# Altium integrated library TI Power Management Lighting and Display.IntLib: 745 symbols (part 19 of 48)
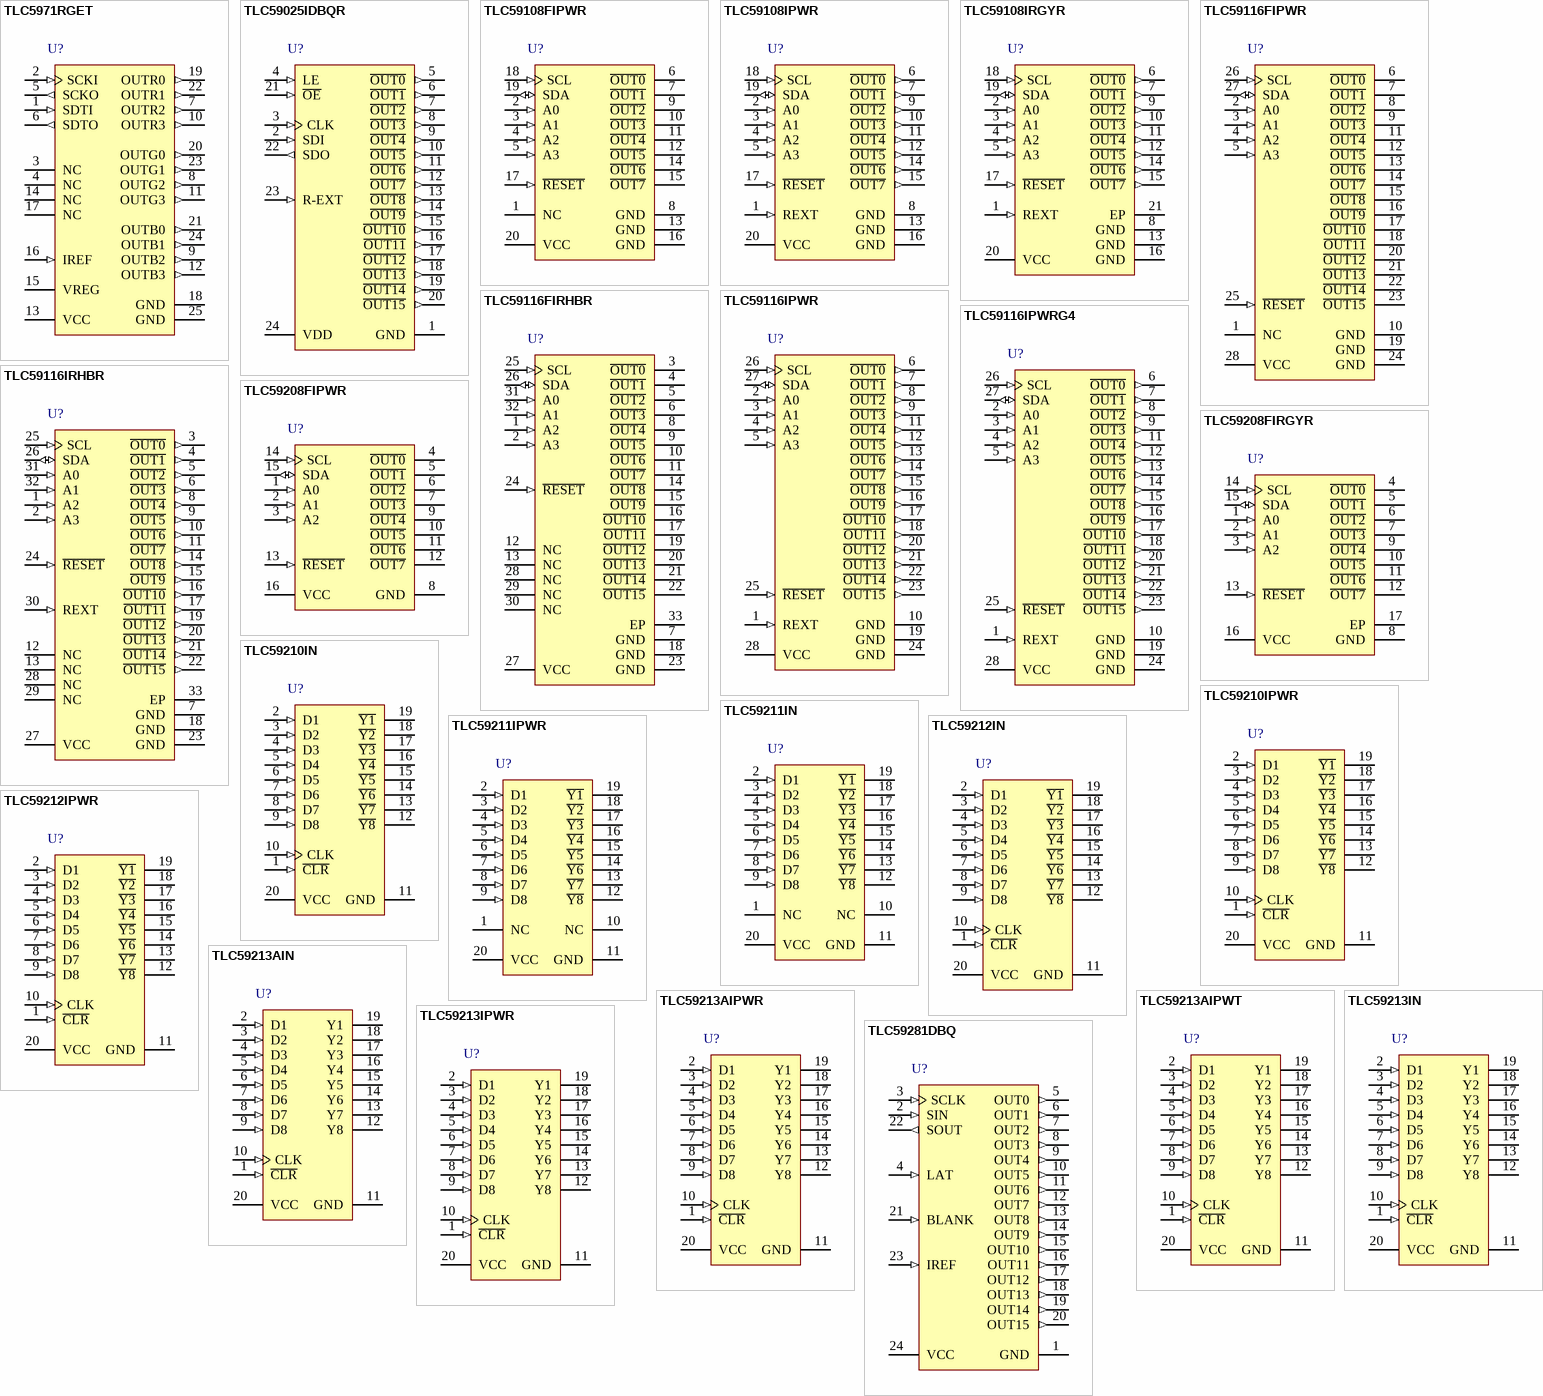
[diagram p49: symbols TLC5971RGET to TLC59281DBQ]

## TLC59108IRGYR
designator U?
8-Bit Fast Mode Plus (FM+) I2C Bus Constant-Current LED Sink Driver, 3 to 5.5 V, -40 to 85 degC, 20-pin QFN (RGY20), Green (RoHS & no Sb/Br); Manufacturer: Texas Instruments; PartNumber: TLC59108IRGYR; Iout(Max)(A): 0.12; SubFamily: LED Driver; Vin(Max)(V): 5.5; Vin(Min)(V): 3; DatasheetVersion: SLDS156A; PackageVersion: 4203539-4/I; PackageReference: RGY20-3050X2050TP; PackageDescription: 20-Pin Plastic Flat Pack, Body 4.5 x 3.5 mm, Pitch 0.5 mm; Supplier 1: Digi-Key; Supplier Part Number 1: TLC59108IRGYR-ND; Supplier 2: Newark; Supplier Part Number 2: 72R6569; Supplier 3: Mouser; Supplier Part Number 3: 595-TLC59108IRGYR; Eco-Plan: Green (RoHS & no Sb/Br); Mounting Technology: Surface Mount; Code_JEDEC: MO-241; ComponentLink1Description: Manufacturer URL; ComponentLink1URL: http://www.ti.com/; ComponentLink2Description: Datasheet; ComponentLink2URL: http://www.ti.com/general/docs/lit/getliterature.tsp?genericPartNumber=TLC59108&fileType=pdf; ComponentLink3Description: Package Specification; ComponentLink3URL: http://www.ti.com/litv/pdf/mpss024a
footprint TI-RGY20-3050X2050TP_V (QFN, 20-Leads, Body 4.5x3.5mm, Pitch 0.5mm, Thermal Pad 3.05x2.05mm)
pins: 1 REXT (in) "Input terminal used to connect an external resistor for setting up all output currents", 2 A0 (in) "Address input 0", 3 A1 (in) "Address input 1", 4 A2 (in) "Address input 2", 5 A3 (in) "Address input 3", 6 ~{OUT0} (out) "Constant current output 0, LED ON at low", 7 ~{OUT1} (out) "Constant current output 1, LED ON at low", 8 GND (power) "Ground", 9 ~{OUT2} (out) "Constant current output 2, LED ON at low", 10 ~{OUT3} (out) "Constant current output 3, LED ON at low", 11 ~{OUT4} (out) "Constant current output 4, LED ON at low", 12 ~{OUT5} (out) "Constant current output 5, LED ON at low", 13 GND (power) "Ground", 14 ~{OUT6} (out) "Constant current output 6, LED ON at low", 15 ~{OUT7} (out) "Constant current output 7, LED ON at low", 16 GND (power) "Ground", 17 ~{RESET} (in) "Active-low reset input", 18 SCL (in) "Serial clock input", 19 SDA (io) "Serial data input/output", 20 VCC (power) "Power supply", 21 EP "Exposed thermal pad"

## TLC59116FIPWR
designator U?
16-Bit Fast-Mode Plus (FM+) I2C-Bus LED Driver, 3 to 5.5 V, -40 to 85 degC, 28-pin SOP (PW28), Green (RoHS & no Sb/Br); Manufacturer: Texas Instruments; PartNumber: TLC59116FIPWR; Rating: Catalog; Vin(Max)(V): 5.5; Vin(Min)(V): 3; DatasheetVersion: SCLS714B; PackageVersion: 4040064-7/G; PackageReference: PW28; PackageDescription: 28-Pin Plastic Small Outline, Body 9.7 x 4.4 mm, Pitch 0.65 mm; Supplier 1: Digi-Key; Supplier Part Number 1: TLC59116FIPWR-ND; Supplier 2: Newark; Supplier Part Number 2: 72R6570; Supplier 3: Mouser; Supplier Part Number 3: 595-TLC59116FIPWR; Eco-Plan: Green (RoHS & no Sb/Br); SubFamily: LED Driver; Mounting Technology: Surface Mount; Code_JEDEC: MO-153; ComponentLink1Description: Manufacturer URL; ComponentLink1URL: http://www.ti.com/; ComponentLink2Description: Datasheet; ComponentLink2URL: http://www.ti.com/general/docs/lit/getliterature.tsp?genericPartNumber=TLC59116F&fileType=pdf; ComponentLink3Description: Package Specification; ComponentLink3URL: http://www.ti.com/litv/pdf/mpds364
footprint TI-PW28_N (SOP, 28-Leads, Body 9.7x4.4mm, Pitch 0.65mm, IPC Medium Density)
footprint TI-PW28_L (SOP, 28-Leads, Body 9.7x4.4mm, Pitch 0.65mm, IPC High Density)
footprint TI-PW28_M (SOP, 28-Leads, Body 9.7x4.4mm, Pitch 0.65mm, IPC Low Density)
pins: 1 NC "No internal connection", 2 A0 (in) "Address input 0", 3 A1 (in) "Address input 1", 4 A2 (in) "Address input 2", 5 A3 (in) "Address input 3", 6 ~{OUT0} (oc) "Open-drain output 0 to 3, LED ON at low", 7 ~{OUT1} (oc) "Open-drain output 0 to 3, LED ON at low", 8 ~{OUT2} (oc) "Open-drain output 0 to 3, LED ON at low", 9 ~{OUT3} (oc) "Open-drain output 0 to 3, LED ON at low", 10 GND (power) "Power ground", 11 ~{OUT4} (oc) "Open-drain output 4 to 7, LED ON at low", 12 ~{OUT5} (oc) "Open-drain output 4 to 7, LED ON at low", 13 ~{OUT6} (oc) "Open-drain output 4 to 7, LED ON at low", 14 ~{OUT7} (oc) "Open-drain output 4 to 7, LED ON at low", 15 ~{OUT8} (oc) "Open-drain output 8 to 11, LED ON at low", 16 ~{OUT9} (oc) "Open-drain output 8 to 11, LED ON at low", 17 ~{OUT10} (oc) "Open-drain output 8 to 11, LED ON at low", 18 ~{OUT11} (oc) "Open-drain output 8 to 11, LED ON at low", 19 GND (power) "Power ground", 20 ~{OUT12} (oc) "Open-drain output 12 to 15, LED ON at low", 21 ~{OUT13} (oc) "Open-drain output 12 to 15, LED ON at low", 22 ~{OUT14} (oc) "Open-drain output 12 to 15, LED ON at low", 23 ~{OUT15} (oc) "Open-drain output 12 to 15, LED ON at low", 24 GND (power) "Power ground", 25 ~{RESET} (in) "Active-low reset input", 26 SCL (in) "Serial clock input", 27 SDA (io) "Serial data input/output", 28 VCC (power) "Power supply"

## TLC59116FIRHBR
designator U?
16-Bit Fast-Mode Plus (FM+) I2C-Bus LED Driver, 3 to 5.5 V, -40 to 85 degC, 32-pin QFN (RHB32), Green (RoHS & no Sb/Br); Manufacturer: Texas Instruments; PartNumber: TLC59116FIRHBR; Rating: Catalog; Vin(Max)(V): 5.5; Vin(Min)(V): 3; DatasheetVersion: SCLS714B; PackageVersion: 4204326/D; PackageReference: RHB32-3450X3450TP; PackageDescription: 32-Pin Plastic Flat Pack, Body 5 x 5 mm, Pitch 0.5 mm; Supplier 1: Digi-Key; Supplier Part Number 1: 296-27584-2-ND; Supplier 2: Digi-Key; Supplier Part Number 2: 296-27584-1-ND; Supplier 3: Digi-Key; Supplier Part Number 3: 296-27584-6-ND; Supplier 4: Newark; Supplier Part Number 4: 79R8508; Supplier 5: Mouser; Supplier Part Number 5: 595-TLC59116FIRHBR; Eco-Plan: Green (RoHS & no Sb/Br); SubFamily: LED Driver; Mounting Technology: Surface Mount; Code_JEDEC: MO-220; ComponentLink1Description: Manufacturer URL; ComponentLink1URL: http://www.ti.com/; ComponentLink2Description: Datasheet; ComponentLink2URL: http://www.ti.com/general/docs/lit/getliterature.tsp?genericPartNumber=TLC59116F&fileType=pdf; ComponentLink3Description: Package Specification; ComponentLink3URL: http://www.ti.com/lit/ml/mpqf130c/mpqf130c.pdf
footprint TI-RHB32-3450X3450TP_V (QFN, 32-Leads, Body 5x5mm, Pitch 0.5mm, Thermal Pad 3.45x3.45mm)
pins: 1 A2 (in) "Address input 2", 2 A3 (in) "Address input 3", 3 ~{OUT0} (oc) "Open-drain output 0, LED ON at low", 4 ~{OUT1} (oc) "Open-drain output 1, LED ON at low", 5 ~{OUT2} (oc) "Open-drain output 2, LED ON at low", 6 ~{OUT3} (oc) "Open-drain output 3, LED ON at low", 7 GND (power) "Power ground", 8 ~{OUT4} (oc) "Open-drain output 4, LED ON at low", 9 ~{OUT5} (oc) "Open-drain output 5, LED ON at low", 10 ~{OUT6} (oc) "Open-drain output 6, LED ON at low", 11 ~{OUT7} (oc) "Open-drain output 7, LED ON at low", 12 NC "No internal connection", 13 NC "No internal connection", 14 ~{OUT8} (oc) "Open-drain output 8, LED ON at low", 15 ~{OUT9} (oc) "Open-drain output 9, LED ON at low", 16 ~{OUT10} (oc) "Open-drain output 10, LED ON at low", 17 ~{OUT11} (oc) "Open-drain output 11, LED ON at low", 18 GND (power) "Power ground", 19 ~{OUT12} (oc) "Open-drain output 12, LED ON at low", 20 ~{OUT13} (oc) "Open-drain output 13, LED ON at low", 21 ~{OUT14} (oc) "Open-drain output 14, LED ON at low", 22 ~{OUT15} (oc) "Open-drain output 15, LED ON at low", 23 GND (power) "Power ground", 24 ~{RESET} (in) "Active-low reset input", 25 SCL (in) "Serial clock input", 26 SDA (io) "Serial data input/output", 27 VCC (power) "Power supply", 28 NC "No internal connection", 29 NC "No internal connection", 30 NC "No internal connection", 31 A0 (in) "Address input 0", 32 A1 (in) "Address input 1", 33 EP (power) "If used, the exposed thermal pad must be connected as a secondary ground."

## TLC59116IPWR
designator U?
16-Bit Fast-Mode Plus (FM+) I2C Bus Constant-Current LED Sink Driver, 3 to 5.5 V, -40 to 85 degC, 28-pin SOP (PW28), Green (RoHS & no Sb/Br); Manufacturer: Texas Instruments; PartNumber: TLC59116IPWR; Rating: Catalog; SubFamily: LED Driver; Vin(Max)(V): 5.5; Vin(Min)(V): 3; DatasheetVersion: SLDS157D; PackageVersion: 4040064-7/G; PackageReference: PW28; PackageDescription: 28-Pin Plastic Small Outline, Body 9.7 x 4.4 mm, Pitch 0.65 mm; Supplier 1: Digi-Key; Supplier Part Number 1: 296-23354-2-ND; Supplier 2: Digi-Key; Supplier Part Number 2: 296-23354-1-ND; Supplier 3: Digi-Key; Supplier Part Number 3: 296-23354-6-ND; Supplier 4: Farnell; Supplier Part Number 4: 1647815RL; Supplier 5: Farnell; Supplier Part Number 5: 1647815; Supplier 6: Newark; Supplier Part Number 6: 85M0144; Supplier 7: Mouser; Supplier Part Number 7: 595-TLC59116IPWR; Eco-Plan: Green (RoHS & no Sb/Br); Mounting Technology: Surface Mount; Code_JEDEC: MO-153; ComponentLink1Description: Manufacturer URL; ComponentLink1URL: http://www.ti.com/; ComponentLink2Description: Datasheet; ComponentLink2URL: http://www.ti.com/general/docs/lit/getliterature.tsp?genericPartNumber=TLC59116&fileType=pdf; ComponentLink3Description: Package Specification; ComponentLink3URL: http://www.ti.com/litv/pdf/mpds364
footprint TI-PW28_N (SOP, 28-Leads, Body 9.7x4.4mm, Pitch 0.65mm, IPC Medium Density)
footprint TI-PW28_L (SOP, 28-Leads, Body 9.7x4.4mm, Pitch 0.65mm, IPC High Density)
footprint TI-PW28_M (SOP, 28-Leads, Body 9.7x4.4mm, Pitch 0.65mm, IPC Low Density)
pins: 1 REXT (in) "Input terminal used to connect an external resistor for setting up all output currents", 2 A0 (in) "Address input 0", 3 A1 (in) "Address input 1", 4 A2 (in) "Address input 2", 5 A3 (in) "Address input 3", 6 ~{OUT0} (out) "Constant current output 0", 7 ~{OUT1} (out) "Constant current output 1", 8 ~{OUT2} (out) "Constant current output 2", 9 ~{OUT3} (out) "Constant current output 3", 10 GND (power) "Ground", 11 ~{OUT4} (out) "Constant current output 4", 12 ~{OUT5} (out) "Constant current output 5", 13 ~{OUT6} (out) "Constant current output 6", 14 ~{OUT7} (out) "Constant current output 7", 15 ~{OUT8} (out) "Constant current output 8", 16 ~{OUT9} (out) "Constant current output 9", 17 ~{OUT10} (out) "Constant current output 10", 18 ~{OUT11} (out) "Constant current output 11", 19 GND (power) "Ground", 20 ~{OUT12} (out) "Constant current output 12", 21 ~{OUT13} (out) "Constant current output 13", 22 ~{OUT14} (out) "Constant current output 14", 23 ~{OUT15} (out) "Constant current output 15", 24 GND (power) "Ground", 25 ~{RESET} (in) "Active-low reset input", 26 SCL (in) "Serial clock input", 27 SDA (io) "Serial data input/output", 28 VCC (power) "Power supply"

## TLC59116IPWRG4
designator U?
16-Bit Fast-Mode Plus (FM+) I2C Bus Constant-Current LED Sink Driver, 3 to 5.5 V, -40 to 85 degC, 28-pin SOP (PW28), Green (RoHS & no Sb/Br); Manufacturer: Texas Instruments; PartNumber: TLC59116IPWRG4; Rating: Catalog; SubFamily: LED Driver; Vin(Max)(V): 5.5; Vin(Min)(V): 3; DatasheetVersion: SLDS157D; PackageVersion: 4040064-7/G; PackageReference: PW28; PackageDescription: 28-Pin Plastic Small Outline, Body 9.7 x 4.4 mm, Pitch 0.65 mm; Supplier 1: Digi-Key; Supplier Part Number 1: TLC59116IPWRG4-ND; Supplier 2: Mouser; Supplier Part Number 2: 595-TLC59116IPWRG4; Eco-Plan: Green (RoHS & no Sb/Br); Mounting Technology: Surface Mount; Code_JEDEC: MO-153; ComponentLink1Description: Manufacturer URL; ComponentLink1URL: http://www.ti.com/; ComponentLink2Description: Datasheet; ComponentLink2URL: http://www.ti.com/general/docs/lit/getliterature.tsp?genericPartNumber=TLC59116&fileType=pdf; ComponentLink3Description: Package Specification; ComponentLink3URL: http://www.ti.com/litv/pdf/mpds364
footprint TI-PW28_N (SOP, 28-Leads, Body 9.7x4.4mm, Pitch 0.65mm, IPC Medium Density)
footprint TI-PW28_L (SOP, 28-Leads, Body 9.7x4.4mm, Pitch 0.65mm, IPC High Density)
footprint TI-PW28_M (SOP, 28-Leads, Body 9.7x4.4mm, Pitch 0.65mm, IPC Low Density)
pins: 1 REXT (in) "Input terminal used to connect an external resistor for setting up all output currents", 2 A0 (in) "Address input 0", 3 A1 (in) "Address input 1", 4 A2 (in) "Address input 2", 5 A3 (in) "Address input 3", 6 ~{OUT0} (out) "Constant current output 0", 7 ~{OUT1} (out) "Constant current output 1", 8 ~{OUT2} (out) "Constant current output 2", 9 ~{OUT3} (out) "Constant current output 3", 10 GND (power) "Ground", 11 ~{OUT4} (out) "Constant current output 4", 12 ~{OUT5} (out) "Constant current output 5", 13 ~{OUT6} (out) "Constant current output 6", 14 ~{OUT7} (out) "Constant current output 7", 15 ~{OUT8} (out) "Constant current output 8", 16 ~{OUT9} (out) "Constant current output 9", 17 ~{OUT10} (out) "Constant current output 10", 18 ~{OUT11} (out) "Constant current output 11", 19 GND (power) "Ground", 20 ~{OUT12} (out) "Constant current output 12", 21 ~{OUT13} (out) "Constant current output 13", 22 ~{OUT14} (out) "Constant current output 14", 23 ~{OUT15} (out) "Constant current output 15", 24 GND (power) "Ground", 25 ~{RESET} (in) "Active-low reset input", 26 SCL (in) "Serial clock input", 27 SDA (io) "Serial data input/output", 28 VCC (power) "Power supply"

## TLC59116IRHBR
designator U?
16-Bit Fast-Mode Plus (FM+) I2C Bus Constant-Current LED Sink Driver, 3 to 5.5 V, -40 to 85 degC, 32-pin QFN (RHB32), Green (RoHS & no Sb/Br); Manufacturer: Texas Instruments; PartNumber: TLC59116IRHBR; Rating: Catalog; SubFamily: LED Driver; Vin(Max)(V): 5.5; Vin(Min)(V): 3; DatasheetVersion: SLDS157D; PackageVersion: 4204326/D; PackageReference: RHB32-3450X3450TP; PackageDescription: 32-Pin Plastic Flat Pack, Body 5 x 5 mm, Pitch 0.5 mm; Supplier 1: Digi-Key; Supplier Part Number 1: TLC59116IRHBRTR-ND; Supplier 2: Digi-Key; Supplier Part Number 2: TLC59116IRHBRCT-ND; Supplier 3: Newark; Supplier Part Number 3: 72R6571; Supplier 4: Mouser; Supplier Part Number 4: 595-TLC59116IRHBR; Eco-Plan: Green (RoHS & no Sb/Br); Mounting Technology: Surface Mount; Code_JEDEC: MO-220; ComponentLink1Description: Manufacturer URL; ComponentLink1URL: http://www.ti.com/; ComponentLink2Description: Datasheet; ComponentLink2URL: http://www.ti.com/general/docs/lit/getliterature.tsp?genericPartNumber=TLC59116&fileType=pdf; ComponentLink3Description: Package Specification; ComponentLink3URL: http://www.ti.com/lit/ml/mpqf130c/mpqf130c.pdf
footprint TI-RHB32-3450X3450TP_V (QFN, 32-Leads, Body 5x5mm, Pitch 0.5mm, Thermal Pad 3.45x3.45mm)
pins: 1 A2 (in) "Address input 2", 2 A3 (in) "Address input 3", 3 ~{OUT0} (out) "Constant current output 0", 4 ~{OUT1} (out) "Constant current output 1", 5 ~{OUT2} (out) "Constant current output 2", 6 ~{OUT3} (out) "Constant current output 3", 7 GND (power) "Ground", 8 ~{OUT4} (out) "Constant current output 4", 9 ~{OUT5} (out) "Constant current output 5", 10 ~{OUT6} (out) "Constant current output 6", 11 ~{OUT7} (out) "Constant current output 7", 12 NC "No internal connection", 13 NC "No internal connection", 14 ~{OUT8} (out) "Constant current output 8", 15 ~{OUT9} (out) "Constant current output 9", 16 ~{OUT10} (out) "Constant current output 10", 17 ~{OUT11} (out) "Constant current output 11", 18 GND (power) "Ground", 19 ~{OUT12} (out) "Constant current output 12", 20 ~{OUT13} (out) "Constant current output 13", 21 ~{OUT14} (out) "Constant current output 14", 22 ~{OUT15} (out) "Constant current output 15", 23 GND (power) "Ground", 24 ~{RESET} (in) "Active-low reset input", 25 SCL (in) "Serial clock input", 26 SDA (io) "Serial data input/output", 27 VCC (power) "Power supply", 28 NC "No internal connection", 29 NC "No internal connection", 30 REXT (in) "Input terminal used to connect an external resistor for setting up all output currents", 31 A0 (in) "Address input 0", 32 A1 (in) "Address input 1", 33 EP (power) "If used, the exposed thermal pad must be connected as a secondary ground."

## TLC59208FIPWR
designator U?
8-Bit Fast-Mode Plus (FM+) I2C Bus LED Driver, 3 to 5.5 V, -40 to 85 degC, 16-pin SOP (PW16), Green (RoHS & no Sb/Br); Manufacturer: Texas Instruments; PartNumber: TLC59208FIPWR; Iout(Max)(A): 0.05; Vin(Max)(V): 5.5; Vin(Min)(V): 3; DatasheetVersion: SCLS715; PackageVersion: 4040064-4/G; PackageReference: PW16; PackageDescription: 16-Pin Plastic Small Outline, Body 4.40 x 5.00 mm, Pitch 0.65 mm; Supplier 1: Digi-Key; Supplier Part Number 1: TLC59208FIPWR-ND; Supplier 2: Newark; Supplier Part Number 2: 72R6572; Supplier 3: Mouser; Supplier Part Number 3: 595-TLC59208FIPWR; Eco-Plan: Green (RoHS & no Sb/Br); SubFamily: LED Driver; Mounting Technology: Surface Mount; Code_JEDEC: MO-153; ComponentLink1Description: Manufacturer URL; ComponentLink1URL: http://www.ti.com/; ComponentLink2Description: Datasheet; ComponentLink2URL: http://www.ti.com/general/docs/lit/getliterature.tsp?genericPartNumber=TLC59208F&fileType=pdf; ComponentLink3Description: Package Specification; ComponentLink3URL: http://www.ti.com/lit/ml/mpds361/mpds361.pdf
footprint TI-PW16_N (SOP, 16-Leads, Body 5x4.4mm, Pitch 0.65mm, IPC Medium Density)
footprint TI-PW16_L (SOP, 16-Leads, Body 5x4.4mm, Pitch 0.65mm, IPC High Density)
footprint TI-PW16_M (SOP, 16-Leads, Body 5x4.4mm, Pitch 0.65mm, IPC Low Density)
pins: 1 A0 (in) "Address input 0", 2 A1 (in) "Address input 1", 3 A2 (in) "Address input 2", 4 ~{OUT0} (oc) "Open-drain output 0 to 7, LED ON at low", 5 ~{OUT1} (oc) "Open-drain output 0 to 7, LED ON at low", 6 ~{OUT2} (oc) "Open-drain output 0 to 7, LED ON at low", 7 ~{OUT3} (oc) "Open-drain output 0 to 7, LED ON at low", 8 GND (power) "Ground", 9 ~{OUT4} (oc) "Open-drain output 0 to 7, LED ON at low", 10 ~{OUT5} (oc) "Open-drain output 0 to 7, LED ON at low", 11 ~{OUT6} (oc) "Open-drain output 0 to 7, LED ON at low", 12 ~{OUT7} (oc) "Open-drain output 0 to 7, LED ON at low", 13 ~{RESET} (in) "Active-low reset input", 14 SCL (in) "Serial clock input", 15 SDA (io) "Serial data input/output", 16 VCC (power) "Power supply"

## TLC59208FIRGYR
designator U?
8-Bit Fast-Mode Plus (FM+) I2C Bus LED Driver, 3 to 5.5 V, -40 to 85 degC, 16-pin QFN (RGY16), Green (RoHS & no Sb/Br); Manufacturer: Texas Instruments; PartNumber: TLC59208FIRGYR; Iout(Max)(A): 0.05; Vin(Max)(V): 5.5; Vin(Min)(V): 3; DatasheetVersion: SCLS715; PackageVersion: 4203539-3/I; PackageReference: RGY16-2550X2050TP; PackageDescription: 16-Pin Plastic Flat pack, Body 4.00 x 3.50 mm, Pitch 0.50 mm; Supplier 1: Digi-Key; Supplier Part Number 1: TLC59208FIRGYR-ND; Supplier 2: Newark; Supplier Part Number 2: 72R6573; Supplier 3: Mouser; Supplier Part Number 3: 595-TLC59208FIRGYR; Eco-Plan: Green (RoHS & no Sb/Br); SubFamily: LED Driver; Mounting Technology: Surface Mount; Code_JEDEC: MO-241; ComponentLink1Description: Manufacturer URL; ComponentLink1URL: http://www.ti.com/; ComponentLink2Description: Datasheet; ComponentLink2URL: http://www.ti.com/general/docs/lit/getliterature.tsp?genericPartNumber=TLC59208F&fileType=pdf; ComponentLink3Description: Package Specification; ComponentLink3URL: http://www.ti.com/litv/pdf/mpqf115g
footprint TI-RGY16-2550X2050TP_V (QFN, 16-Leads, Body 4x3.5mm, Pitch 0.5mm, Thermal Pad 2.55x2.05mm)
pins: 1 A0 (in) "Address input 0", 2 A1 (in) "Address input 1", 3 A2 (in) "Address input 2", 4 ~{OUT0} (oc) "Open-drain output 0 to 7, LED ON at low", 5 ~{OUT1} (oc) "Open-drain output 0 to 7, LED ON at low", 6 ~{OUT2} (oc) "Open-drain output 0 to 7, LED ON at low", 7 ~{OUT3} (oc) "Open-drain output 0 to 7, LED ON at low", 8 GND (power) "Ground", 9 ~{OUT4} (oc) "Open-drain output 0 to 7, LED ON at low", 10 ~{OUT5} (oc) "Open-drain output 0 to 7, LED ON at low", 11 ~{OUT6} (oc) "Open-drain output 0 to 7, LED ON at low", 12 ~{OUT7} (oc) "Open-drain output 0 to 7, LED ON at low", 13 ~{RESET} (in) "Active-low reset input", 14 SCL (in) "Serial clock input", 15 SDA (io) "Serial data input/output", 16 VCC (power) "Power supply", 17 EP

## TLC59210IN
designator U?
8-Bit DMOS Sink Driver with Latch, 3 to 5.5 V, -40 to 85 degC, 20-pin DIP (N20), Pb-Free (RoHS); Manufacturer: Texas Instruments; PartNumber: TLC59210IN; SubFamily: LED Driver; Vin(Max)(V): 5.5; Vin(Min)(V): 3; DatasheetVersion: SCLS711; PackageVersion: 4040049/E; PackageReference: N20; PackageDescription: 20-Pin Plastic In-Line, Body 25.40 x 6.35 mm, Pitch 2.54 mm; Supplier 1: Digi-Key; Supplier Part Number 1: 296-25401-5-ND; Supplier 2: Newark; Supplier Part Number 2: 24R9987; Supplier 3: Mouser; Supplier Part Number 3: 595-TLC59210IN; Eco-Plan: Pb-Free (RoHS); Mounting Technology: Through Hole; Code_JEDEC: MS-001; ComponentLink1Description: Manufacturer URL; ComponentLink1URL: http://www.ti.com/; ComponentLink2Description: Datasheet; ComponentLink2URL: http://www.ti.com/general/docs/lit/getliterature.tsp?genericPartNumber=TLC59210&fileType=pdf; ComponentLink3Description: Package Specification; ComponentLink3URL: http://www.ti.com/lit/ml/mpdi002c/mpdi002c.pdf
footprint TI-N20 (DIP, 20-Leads, Body 25.4x6.35 mm, Pitch 2.54 mm)
pins: 1 ~{CLR} (in), 2 D1 (in), 3 D2 (in), 4 D3 (in), 5 D4 (in), 6 D5 (in), 7 D6 (in), 8 D7 (in), 9 D8 (in), 10 CLK (in), 11 GND (power), 12 ~{Y8} (oc), 13 ~{Y7} (oc), 14 ~{Y6} (oc), 15 ~{Y5} (oc), 16 ~{Y4} (oc), 17 ~{Y3} (oc), 18 ~{Y2} (oc), 19 ~{Y1} (oc), 20 VCC (power)

## TLC59210IPWR
designator U?
8-Bit DMOS Sink Driver with Latch, 3 to 5.5 V, -40 to 85 degC, 20-pin SOP (PW20), Green (RoHS & no Sb/Br); Manufacturer: Texas Instruments; PartNumber: TLC59210IPWR; SubFamily: LED Driver; Vin(Max)(V): 5.5; Vin(Min)(V): 3; DatasheetVersion: SCLS711; PackageVersion: 4040064-5/G; PackageReference: PW20; PackageDescription: 20-Pin Plastic Small Outline, Body 6.5 x 4.4 mm, 0.65 mm Pitch; Supplier 1: Digi-Key; Supplier Part Number 1: 296-25402-2-ND; Supplier 2: Digi-Key; Supplier Part Number 2: 296-25402-1-ND; Supplier 3: Digi-Key; Supplier Part Number 3: 296-25402-6-ND; Supplier 4: Mouser; Supplier Part Number 4: 595-TLC59210IPWR; Eco-Plan: Green (RoHS & no Sb/Br); Mounting Technology: Surface Mount; Code_JEDEC: MO-153; ComponentLink1Description: Manufacturer URL; ComponentLink1URL: http://www.ti.com/; ComponentLink2Description: Datasheet; ComponentLink2URL: http://www.ti.com/general/docs/lit/getliterature.tsp?genericPartNumber=TLC59210&fileType=pdf; ComponentLink3Description: Package Specification; ComponentLink3URL: http://www.ti.com.cn/cn/lit/ml/mpds362/mpds362.pdf
footprint TI-PW20_N (SOP, 20-Leads, Body 6.5x4.4mm, Pitch 0.65mm, IPC Medium Density)
footprint TI-PW20_L (SOP, 20-Leads, Body 6.5x4.4mm, Pitch 0.65mm, IPC High Density)
footprint TI-PW20_M (SOP, 20-Leads, Body 6.5x4.4mm, Pitch 0.65mm, IPC Low Density)
pins: 1 ~{CLR} (in), 2 D1 (in), 3 D2 (in), 4 D3 (in), 5 D4 (in), 6 D5 (in), 7 D6 (in), 8 D7 (in), 9 D8 (in), 10 CLK (in), 11 GND (power), 12 ~{Y8} (oc), 13 ~{Y7} (oc), 14 ~{Y6} (oc), 15 ~{Y5} (oc), 16 ~{Y4} (oc), 17 ~{Y3} (oc), 18 ~{Y2} (oc), 19 ~{Y1} (oc), 20 VCC (power)

## TLC59211IN
designator U?
8-Bit DMOS Sink Driver, 3 to 5.5 V, -40 to 85 degC, 20-pin DIP (N20), Pb-Free (RoHS); Manufacturer: Texas Instruments; PartNumber: TLC59211IN; SubFamily: LED Driver; Vin(Max)(V): 5.5; Vin(Min)(V): 3; DatasheetVersion: SCLS712; PackageVersion: 4040049/E; PackageReference: N20; PackageDescription: 20-Pin Plastic In-Line, Body 25.40 x 6.35 mm, Pitch 2.54 mm; Supplier 1: Digi-Key; Supplier Part Number 1: 296-25403-5-ND; Supplier 2: Newark; Supplier Part Number 2: 24R9988; Supplier 3: Mouser; Supplier Part Number 3: 595-TLC59211IN; Eco-Plan: Pb-Free (RoHS); Mounting Technology: Through Hole; Code_JEDEC: MS-001; ComponentLink1Description: Manufacturer URL; ComponentLink1URL: http://www.ti.com/; ComponentLink2Description: Datasheet; ComponentLink2URL: http://www.ti.com/general/docs/lit/getliterature.tsp?genericPartNumber=TLC59211&fileType=pdf; ComponentLink3Description: Package Specification; ComponentLink3URL: http://www.ti.com/lit/ml/mpdi002c/mpdi002c.pdf
footprint TI-N20 (DIP, 20-Leads, Body 25.4x6.35 mm, Pitch 2.54 mm)
pins: 1 NC, 2 D1 (in), 3 D2 (in), 4 D3 (in), 5 D4 (in), 6 D5 (in), 7 D6 (in), 8 D7 (in), 9 D8 (in), 10 NC, 11 GND (power), 12 ~{Y8} (oc), 13 ~{Y7} (oc), 14 ~{Y6} (oc), 15 ~{Y5} (oc), 16 ~{Y4} (oc), 17 ~{Y3} (oc), 18 ~{Y2} (oc), 19 ~{Y1} (oc), 20 VCC (power)

## TLC59211IPWR
designator U?
8-Bit DMOS Sink Driver, 3 to 5.5 V, -40 to 85 degC, 20-pin SOP (PW20), Green (RoHS & no Sb/Br); Manufacturer: Texas Instruments; PartNumber: TLC59211IPWR; SubFamily: LED Driver; Vin(Max)(V): 5.5; Vin(Min)(V): 3; DatasheetVersion: SCLS712; PackageVersion: 4040064-5/G; PackageReference: PW20; PackageDescription: 20-Pin Plastic Small Outline, Body 6.5 x 4.4 mm, 0.65 mm Pitch; Supplier 1: Digi-Key; Supplier Part Number 1: 296-25404-2-ND; Supplier 2: Digi-Key; Supplier Part Number 2: 296-25404-1-ND; Supplier 3: Digi-Key; Supplier Part Number 3: 296-25404-6-ND; Supplier 4: Newark; Supplier Part Number 4: 09R6482; Supplier 5: Mouser; Supplier Part Number 5: 595-TLC59211IPWR; Eco-Plan: Green (RoHS & no Sb/Br); Mounting Technology: Surface Mount; Code_JEDEC: MO-153; ComponentLink1Description: Manufacturer URL; ComponentLink1URL: http://www.ti.com/; ComponentLink2Description: Datasheet; ComponentLink2URL: http://www.ti.com/general/docs/lit/getliterature.tsp?genericPartNumber=TLC59211&fileType=pdf; ComponentLink3Description: Package Specification; ComponentLink3URL: http://www.ti.com.cn/cn/lit/ml/mpds362/mpds362.pdf
footprint TI-PW20_N (SOP, 20-Leads, Body 6.5x4.4mm, Pitch 0.65mm, IPC Medium Density)
footprint TI-PW20_L (SOP, 20-Leads, Body 6.5x4.4mm, Pitch 0.65mm, IPC High Density)
footprint TI-PW20_M (SOP, 20-Leads, Body 6.5x4.4mm, Pitch 0.65mm, IPC Low Density)
pins: 1 NC, 2 D1 (in), 3 D2 (in), 4 D3 (in), 5 D4 (in), 6 D5 (in), 7 D6 (in), 8 D7 (in), 9 D8 (in), 10 NC, 11 GND (power), 12 ~{Y8} (oc), 13 ~{Y7} (oc), 14 ~{Y6} (oc), 15 ~{Y5} (oc), 16 ~{Y4} (oc), 17 ~{Y3} (oc), 18 ~{Y2} (oc), 19 ~{Y1} (oc), 20 VCC (power)

## TLC59212IN
designator U?
8-Bit Open-Collector Driver with Latch, 4.5 to 5.5 V, -40 to 85 degC, 20-pin DIP (N20), Pb-Free (RoHS); Manufacturer: Texas Instruments; PartNumber: TLC59212IN; Iout(Max)(A): 0.04; SubFamily: LED Driver; Vin(Max)(V): 5.5; Vin(Min)(V): 4.5; DatasheetVersion: SCLS713; PackageVersion: 4040049/E; PackageReference: N20; PackageDescription: 20-Pin Plastic In-Line, Body 25.40 x 6.35 mm, Pitch 2.54 mm; Supplier 1: Digi-Key; Supplier Part Number 1: 296-34374-5-ND; Supplier 2: Mouser; Supplier Part Number 2: 595-TLC59212IN; Eco-Plan: Pb-Free (RoHS); Mounting Technology: Through Hole; Code_JEDEC: MS-001; ComponentLink1Description: Manufacturer URL; ComponentLink1URL: http://www.ti.com/; ComponentLink2Description: Datasheet; ComponentLink2URL: http://www.ti.com/lit/ds/symlink/tlc59212.pdf; ComponentLink3Description: Package Specification; ComponentLink3URL: http://www.ti.com/lit/ml/mpdi002c/mpdi002c.pdf
footprint TI-N20 (DIP, 20-Leads, Body 25.4x6.35 mm, Pitch 2.54 mm)
pins: 1 ~{CLR} (in), 2 D1 (in), 3 D2 (in), 4 D3 (in), 5 D4 (in), 6 D5 (in), 7 D6 (in), 8 D7 (in), 9 D8 (in), 10 CLK (in), 11 GND (power), 12 ~{Y8} (oc), 13 ~{Y7} (oc), 14 ~{Y6} (oc), 15 ~{Y5} (oc), 16 ~{Y4} (oc), 17 ~{Y3} (oc), 18 ~{Y2} (oc), 19 ~{Y1} (oc), 20 VCC (power)

## TLC59212IPWR
designator U?
8-Bit Open-Collector Driver with Latch, 4.5 to 5.5 V, -40 to 85 degC, 20-pin SOP (PW20), Green (RoHS & no Sb/Br); Manufacturer: Texas Instruments; PartNumber: TLC59212IPWR; Iout(Max)(A): 0.04; SubFamily: LED Driver; Vin(Max)(V): 5.5; Vin(Min)(V): 4.5; DatasheetVersion: SCLS713; PackageVersion: 4040064-5/G; PackageReference: PW20; PackageDescription: 20-Pin Plastic Small Outline, Body 6.5 x 4.4 mm, 0.65 mm Pitch; Supplier 1: Digi-Key; Supplier Part Number 1: 296-25405-2-ND; Supplier 2: Digi-Key; Supplier Part Number 2: 296-25405-1-ND; Supplier 3: Digi-Key; Supplier Part Number 3: 296-25405-6-ND; Supplier 4: Mouser; Supplier Part Number 4: 595-TLC59212IPWR; Eco-Plan: Green (RoHS & no Sb/Br); Mounting Technology: Surface Mount; Code_JEDEC: MO-153; ComponentLink1Description: Manufacturer URL; ComponentLink1URL: http://www.ti.com/; ComponentLink2Description: Datasheet; ComponentLink2URL: http://www.ti.com/lit/ds/symlink/tlc59212.pdf; ComponentLink3Description: Package Specification; ComponentLink3URL: http://www.ti.com.cn/cn/lit/ml/mpds362/mpds362.pdf
footprint TI-PW20_N (SOP, 20-Leads, Body 6.5x4.4mm, Pitch 0.65mm, IPC Medium Density)
footprint TI-PW20_L (SOP, 20-Leads, Body 6.5x4.4mm, Pitch 0.65mm, IPC High Density)
footprint TI-PW20_M (SOP, 20-Leads, Body 6.5x4.4mm, Pitch 0.65mm, IPC Low Density)
pins: 1 ~{CLR} (in), 2 D1 (in), 3 D2 (in), 4 D3 (in), 5 D4 (in), 6 D5 (in), 7 D6 (in), 8 D7 (in), 9 D8 (in), 10 CLK (in), 11 GND (power), 12 ~{Y8} (oc), 13 ~{Y7} (oc), 14 ~{Y6} (oc), 15 ~{Y5} (oc), 16 ~{Y4} (oc), 17 ~{Y3} (oc), 18 ~{Y2} (oc), 19 ~{Y1} (oc), 20 VCC (power)

## TLC59213AIN
designator U?
8-Bit Parallel In / Out Darlington Source Driver with Latch and Enhanced Hold Time, 4.5 to 13.2 V, -40 to 85 degC, 20-pin DIP (N20), Pb-Free (RoHS); Manufacturer: Texas Instruments; PartNumber: TLC59213AIN; SubFamily: LED Driver; Vin(Max)(V): 13.2; Vin(Min)(V): 4.5; DatasheetVersion: SLVS867A; PackageVersion: 4040049/E; PackageReference: N20; PackageDescription: 20-Pin Plastic In-Line, Body 25.40 x 6.35 mm, Pitch 2.54 mm; Supplier 1: Digi-Key; Supplier Part Number 1: 296-27312-5-ND; Supplier 2: Newark; Supplier Part Number 2: 74R6599; Supplier 3: Mouser; Supplier Part Number 3: 595-TLC59213AIN; Eco-Plan: Pb-Free (RoHS); Mounting Technology: Through Hole; Code_JEDEC: MS-001; ComponentLink1Description: Manufacturer URL; ComponentLink1URL: http://www.ti.com/; ComponentLink2Description: Datasheet; ComponentLink2URL: http://www.ti.com/general/docs/lit/getliterature.tsp?genericPartNumber=TLC59213A&fileType=pdf; ComponentLink3Description: Package Specification; ComponentLink3URL: http://www.ti.com/lit/ml/mpdi002c/mpdi002c.pdf
footprint TI-N20 (DIP, 20-Leads, Body 25.4x6.35 mm, Pitch 2.54 mm)
pins: 1 ~{CLR} (in), 2 D1 (in), 3 D2 (in), 4 D3 (in), 5 D4 (in), 6 D5 (in), 7 D6 (in), 8 D7 (in), 9 D8 (in), 10 CLK (in), 11 GND (power), 12 Y8 (hiz), 13 Y7 (hiz), 14 Y6 (hiz), 15 Y5 (hiz), 16 Y4 (hiz), 17 Y3 (hiz), 18 Y2 (hiz), 19 Y1 (hiz), 20 VCC (power)

## TLC59213AIPWR
designator U?
8-Bit Parallel In / Out Darlington Source Driver with Latch and Enhanced Hold Time, 4.5 to 13.2 V, -40 to 85 degC, 20-pin SOP (PW20), Green (RoHS & no Sb/Br); Manufacturer: Texas Instruments; PartNumber: TLC59213AIPWR; SubFamily: LED Driver; Vin(Max)(V): 13.2; Vin(Min)(V): 4.5; DatasheetVersion: SLVS867A; PackageVersion: 4040064-5/G; PackageReference: PW20; PackageDescription: 20-Pin Plastic Small Outline, Body 6.5 x 4.4 mm, 0.65 mm Pitch; Supplier 1: Digi-Key; Supplier Part Number 1: 296-27313-2-ND; Supplier 2: Digi-Key; Supplier Part Number 2: 296-27313-1-ND; Supplier 3: Digi-Key; Supplier Part Number 3: 296-27313-6-ND; Supplier 4: Mouser; Supplier Part Number 4: 595-TLC59213AIPWR; Eco-Plan: Green (RoHS & no Sb/Br); Mounting Technology: Surface Mount; Code_JEDEC: MO-153; ComponentLink1Description: Manufacturer URL; ComponentLink1URL: http://www.ti.com/; ComponentLink2Description: Datasheet; ComponentLink2URL: http://www.ti.com/general/docs/lit/getliterature.tsp?genericPartNumber=TLC59213A&fileType=pdf; ComponentLink3Description: Package Specification; ComponentLink3URL: http://www.ti.com.cn/cn/lit/ml/mpds362/mpds362.pdf
footprint TI-PW20_N (SOP, 20-Leads, Body 6.5x4.4mm, Pitch 0.65mm, IPC Medium Density)
footprint TI-PW20_L (SOP, 20-Leads, Body 6.5x4.4mm, Pitch 0.65mm, IPC High Density)
footprint TI-PW20_M (SOP, 20-Leads, Body 6.5x4.4mm, Pitch 0.65mm, IPC Low Density)
pins: 1 ~{CLR} (in), 2 D1 (in), 3 D2 (in), 4 D3 (in), 5 D4 (in), 6 D5 (in), 7 D6 (in), 8 D7 (in), 9 D8 (in), 10 CLK (in), 11 GND (power), 12 Y8 (hiz), 13 Y7 (hiz), 14 Y6 (hiz), 15 Y5 (hiz), 16 Y4 (hiz), 17 Y3 (hiz), 18 Y2 (hiz), 19 Y1 (hiz), 20 VCC (power)

## TLC59213AIPWT
designator U?
8-Bit Parallel In / Out Darlington Source Driver with Latch and Enhanced Hold Time, 4.5 to 13.2 V, -40 to 85 degC, 20-pin SOP (PW20), Green (RoHS & no Sb/Br); Manufacturer: Texas Instruments; PartNumber: TLC59213AIPWT; SubFamily: LED Driver; Vin(Max)(V): 13.2; Vin(Min)(V): 4.5; DatasheetVersion: SLVS867A; PackageVersion: 4040064-5/G; PackageReference: PW20; PackageDescription: 20-Pin Plastic Small Outline, Body 6.5 x 4.4 mm, 0.65 mm Pitch; Supplier 1: Digi-Key; Supplier Part Number 1: 296-34820-2-ND; Supplier 2: Digi-Key; Supplier Part Number 2: 296-34820-1-ND; Supplier 3: Digi-Key; Supplier Part Number 3: 296-34820-6-ND; Supplier 4: Farnell; Supplier Part Number 4: 2214984; Supplier 5: Newark; Supplier Part Number 5: 27W9623; Supplier 6: Newark; Supplier Part Number 6: 45W6435; Supplier 7: Mouser; Supplier Part Number 7: 595-TLC59213AIPWT; Eco-Plan: Green (RoHS & no Sb/Br); Mounting Technology: Surface Mount; Code_JEDEC: MO-153; ComponentLink1Description: Manufacturer URL; ComponentLink1URL: http://www.ti.com/; ComponentLink2Description: Datasheet; ComponentLink2URL: http://www.ti.com/general/docs/lit/getliterature.tsp?genericPartNumber=TLC59213A&fileType=pdf; ComponentLink3Description: Package Specification; ComponentLink3URL: http://www.ti.com.cn/cn/lit/ml/mpds362/mpds362.pdf
footprint TI-PW20_N (SOP, 20-Leads, Body 6.5x4.4mm, Pitch 0.65mm, IPC Medium Density)
footprint TI-PW20_L (SOP, 20-Leads, Body 6.5x4.4mm, Pitch 0.65mm, IPC High Density)
footprint TI-PW20_M (SOP, 20-Leads, Body 6.5x4.4mm, Pitch 0.65mm, IPC Low Density)
pins: 1 ~{CLR} (in), 2 D1 (in), 3 D2 (in), 4 D3 (in), 5 D4 (in), 6 D5 (in), 7 D6 (in), 8 D7 (in), 9 D8 (in), 10 CLK (in), 11 GND (power), 12 Y8 (hiz), 13 Y7 (hiz), 14 Y6 (hiz), 15 Y5 (hiz), 16 Y4 (hiz), 17 Y3 (hiz), 18 Y2 (hiz), 19 Y1 (hiz), 20 VCC (power)

## TLC59213IN
designator U?
8-Channel Source Driver with Latch, 4.5 to 13.2 V, -40 to 85 degC, 20-pin DIP (N20), Pb-Free (RoHS); Manufacturer: Texas Instruments; PartNumber: TLC59213IN; SubFamily: LED Driver; Vin(Max)(V): 13.2; Vin(Min)(V): 4.5; DatasheetVersion: SLVS867A; PackageVersion: 4040049/E; PackageReference: N20; PackageDescription: 20-Pin Plastic In-Line, Body 25.40 x 6.35 mm, Pitch 2.54 mm; Supplier 1: Digi-Key; Supplier Part Number 1: 296-25406-5-ND; Supplier 2: Newark; Supplier Part Number 2: 24R9989; Supplier 3: Mouser; Supplier Part Number 3: 595-TLC59213IN; Eco-Plan: Pb-Free (RoHS); Mounting Technology: Through Hole; Code_JEDEC: MS-001; ComponentLink1Description: Manufacturer URL; ComponentLink1URL: http://www.ti.com/; ComponentLink2Description: Datasheet; ComponentLink2URL: http://www.ti.com/general/docs/lit/getliterature.tsp?genericPartNumber=TLC59213&fileType=pdf; ComponentLink3Description: Package Specification; ComponentLink3URL: http://www.ti.com/lit/ml/mpdi002c/mpdi002c.pdf
footprint TI-N20 (DIP, 20-Leads, Body 25.4x6.35 mm, Pitch 2.54 mm)
pins: 1 ~{CLR} (in), 2 D1 (in), 3 D2 (in), 4 D3 (in), 5 D4 (in), 6 D5 (in), 7 D6 (in), 8 D7 (in), 9 D8 (in), 10 CLK (in), 11 GND (power), 12 Y8 (hiz), 13 Y7 (hiz), 14 Y6 (hiz), 15 Y5 (hiz), 16 Y4 (hiz), 17 Y3 (hiz), 18 Y2 (hiz), 19 Y1 (hiz), 20 VCC (power)

## TLC59213IPWR
designator U?
8-Channel Source Driver with Latch, 4.5 to 13.2 V, -40 to 85 degC, 20-pin SOP (PW20), Green (RoHS & no Sb/Br); Manufacturer: Texas Instruments; PartNumber: TLC59213IPWR; SubFamily: LED Driver; Vin(Max)(V): 13.2; Vin(Min)(V): 4.5; DatasheetVersion: SLVS867A; PackageVersion: 4040064-5/G; PackageReference: PW20; PackageDescription: 20-Pin Plastic Small Outline, Body 6.5 x 4.4 mm, 0.65 mm Pitch; Supplier 1: Digi-Key; Supplier Part Number 1: 296-24262-2-ND; Supplier 2: Digi-Key; Supplier Part Number 2: 296-24262-1-ND; Supplier 3: Digi-Key; Supplier Part Number 3: 296-24262-6-ND; Supplier 4: Newark; Supplier Part Number 4: 09R6484; Supplier 5: Mouser; Supplier Part Number 5: 595-TLC59213IPWR; Eco-Plan: Green (RoHS & no Sb/Br); Mounting Technology: Surface Mount; Code_JEDEC: MO-153; ComponentLink1Description: Manufacturer URL; ComponentLink1URL: http://www.ti.com/; ComponentLink2Description: Datasheet; ComponentLink2URL: http://www.ti.com/general/docs/lit/getliterature.tsp?genericPartNumber=TLC59213&fileType=pdf; ComponentLink3Description: Package Specification; ComponentLink3URL: http://www.ti.com.cn/cn/lit/ml/mpds362/mpds362.pdf
footprint TI-PW20_N (SOP, 20-Leads, Body 6.5x4.4mm, Pitch 0.65mm, IPC Medium Density)
footprint TI-PW20_L (SOP, 20-Leads, Body 6.5x4.4mm, Pitch 0.65mm, IPC High Density)
footprint TI-PW20_M (SOP, 20-Leads, Body 6.5x4.4mm, Pitch 0.65mm, IPC Low Density)
pins: 1 ~{CLR} (in), 2 D1 (in), 3 D2 (in), 4 D3 (in), 5 D4 (in), 6 D5 (in), 7 D6 (in), 8 D7 (in), 9 D8 (in), 10 CLK (in), 11 GND (power), 12 Y8 (hiz), 13 Y7 (hiz), 14 Y6 (hiz), 15 Y5 (hiz), 16 Y4 (hiz), 17 Y3 (hiz), 18 Y2 (hiz), 19 Y1 (hiz), 20 VCC (power)

## TLC59281DBQ
designator U?
16-Channel, Constant-Current LED Driver without LED Open Detection, 3 to 5.5 V, -40 to 85 degC, 24-pin SOP (DBQ24), Green (RoHS & no Sb/Br); Manufacturer: Texas Instruments; PartNumber: TLC59281DBQ; Rating: Catalog; Vin(Max)(V): 5.5; Vin(Min)(V): 3; DatasheetVersion: SBVS139B; PackageVersion: 4073301-4/H; PackageReference: DBQ24; PackageDescription: 24-Pin Plastic Small-Outline, Body 8.65 x 3.90 mm, Pitch 0.635 mm; Supplier 1: Digi-Key; Supplier Part Number 1: 296-34375-5-ND; Supplier 2: Newark; Supplier Part Number 2: 69R0413; Supplier 3: Mouser; Supplier Part Number 3: 595-TLC59281DBQ; Eco-Plan: Green (RoHS & no Sb/Br); SubFamily: LED Driver; Mounting Technology: Surface Mount; Code_JEDEC: MO-137; ComponentLink1Description: Manufacturer URL; ComponentLink1URL: http://www.ti.com/; ComponentLink2Description: Datasheet; ComponentLink2URL: http://www.ti.com/general/docs/lit/getliterature.tsp?genericPartNumber=TLC59281&fileType=pdf; ComponentLink3Description: Package Specification; ComponentLink3URL: http://www.ti.com/litv/pdf/mpds211a
footprint TI-DBQ24_N (SOP, 24-Leads, Body 8.65x6mm, Pitch 0.635mm, IPC Medium Density)
footprint TI-DBQ24_L (SOP, 24-Leads, Body 8.65x6mm, Pitch 0.635mm, IPC High Density)
footprint TI-DBQ24_M (SOP, 24-Leads, Body 8.65x6mm, Pitch 0.635mm, IPC Low Density)
pins: 1 GND (power) "Power ground", 2 SIN (in) "Serial data input for driver on/off control. When SIN=high level, data '1' are written into LSB of the on/off control shift register at the rising edge of SCLK.", 3 SCLK (in) "Serial data shift clock. Schmitt buffer input. All data in the on/off control shift register are shifted toward the MSB by 1-bit synchronization of SCLK. A rising edge on SCLK is allowed 100 ns after a rising edge of LAT.", 4 LAT (in) "Edge triggered latch. The data in the on/off control data shift register are transferred to the on/off control data latch at this rising edge. At the same time, the data in the on/off control shift register are replaced with (See Datasheet)", 5 OUT0 (out) "Constant-current output.Each output can be tied together with others to increase the Constant-current. Different voltages can be applied to each output.", 6 OUT1 (out) "Constant-current output", 7 OUT2 (out) "Constant-current output", 8 OUT3 (out) "Constant-current output", 9 OUT4 (out) "Constant-current output", 10 OUT5 (out) "Constant-current output", 11 OUT6 (out) "Constant-current output", 12 OUT7 (out) "Constant-current output", 13 OUT8 (out) "Constant-current output", 14 OUT9 (out) "Constant-current output", 15 OUT10 (out) "Constant-current output", 16 OUT11 (out) "Constant-current output", 17 OUT12 (out) "Constant-current output", 18 OUT13 (out) "Constant-current output", 19 OUT14 (out) "Constant-current output", 20 OUT15 (out) "Constant-current output", 21 BLANK (in) "Blank, all outputs. When BLANK = high level, all constant-current outputs (OUT0-OUT15) are forced off.When BLANK=low level, all constant-current outputs are controlled by the on/off control data in the data latch.LOD and PTW (See Datasheet)", 22 SOUT (out) "Serial data onput. This output is connected to the MSB of the on/off data shift register .SOUT data changes at the rising edge of SCLK.", 23 IREF (in) "Constant-current value setting.OUT0-OUT15 sink Constant-current is set to desired value by connection to an external resistor between IREF and GND.", 24 VCC (power) "Power-supply voltage"

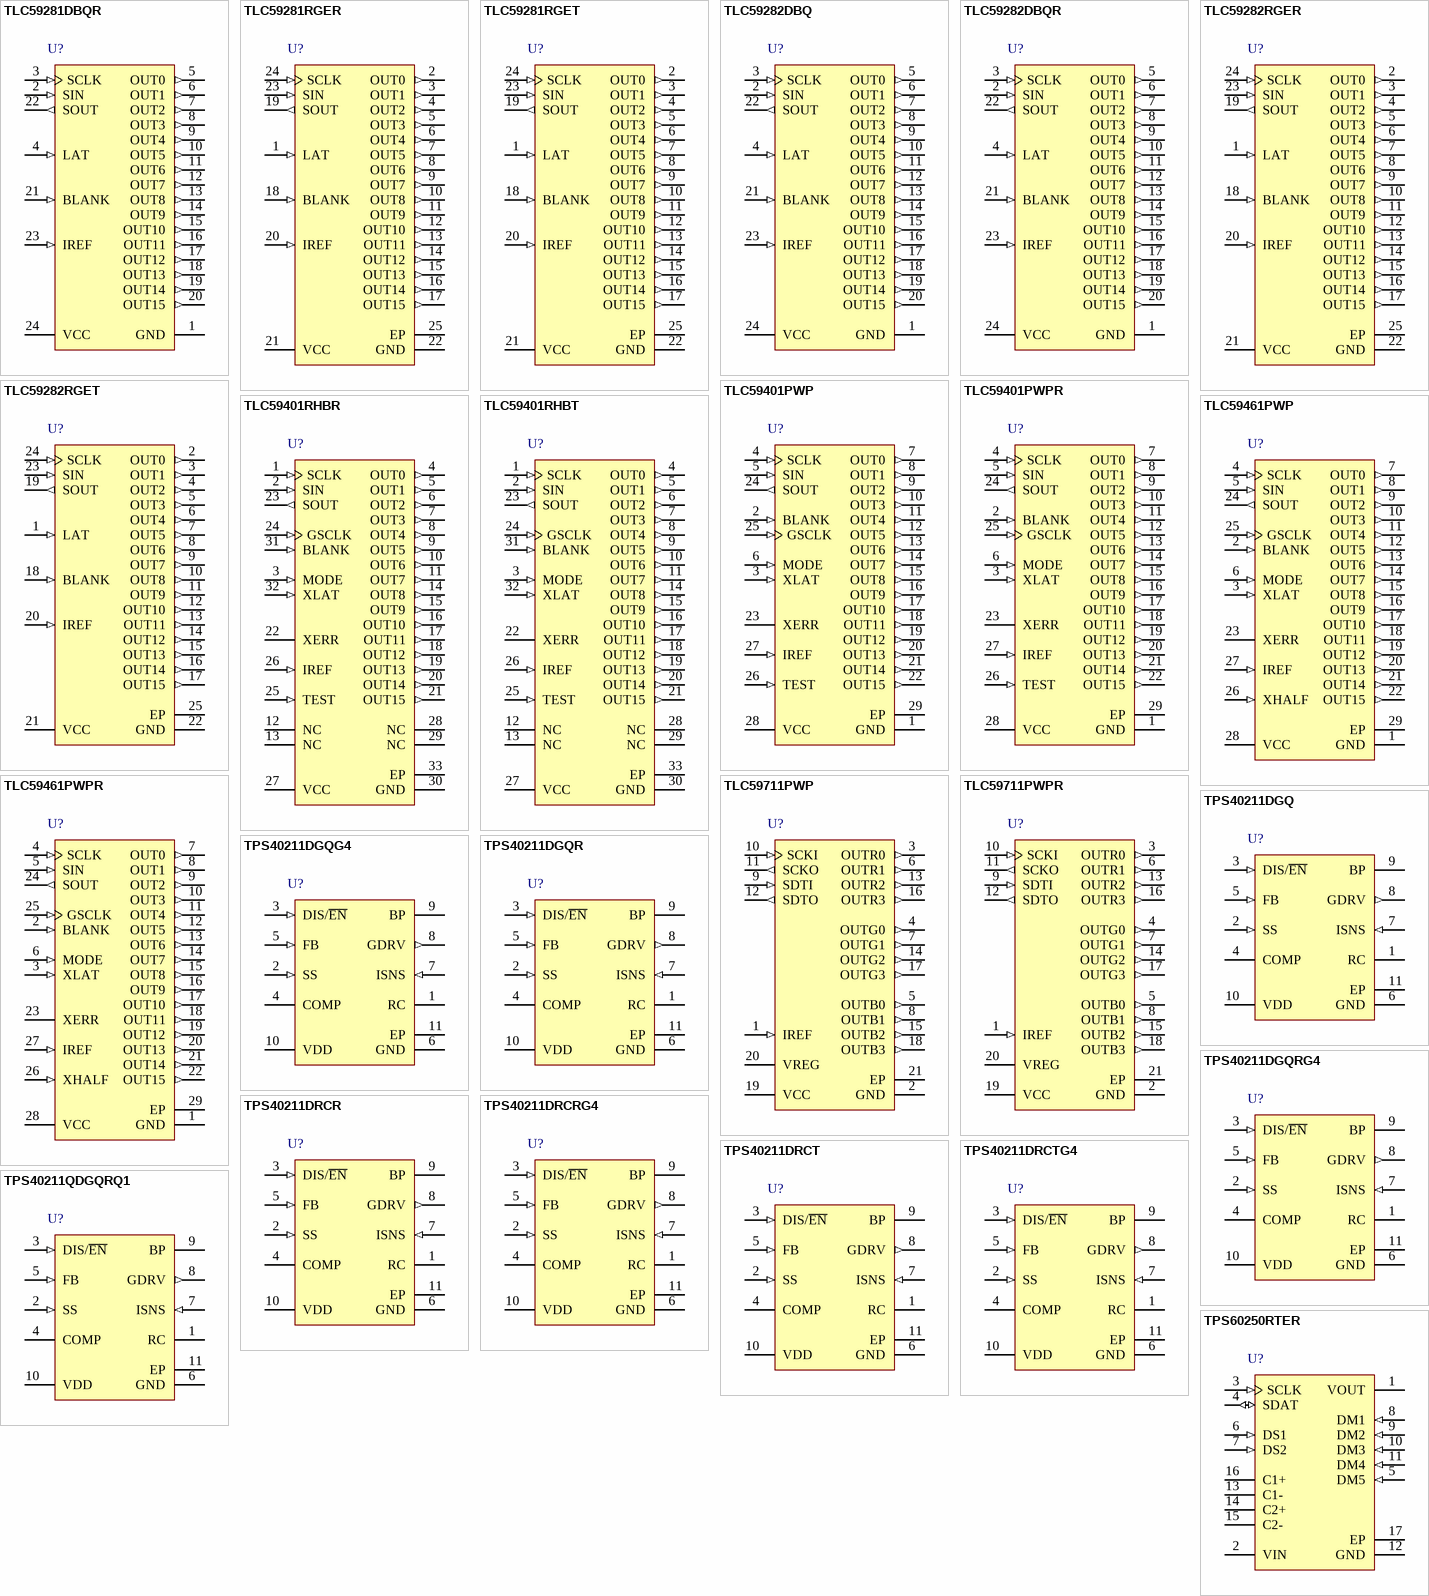
[diagram p14: symbols TLC59281DBQR to TPS60250RTER]

## TLC59281DBQR
designator U?
16-Channel, Constant-Current LED Driver without LED Open Detection, 3 to 5.5 V, -40 to 85 degC, 24-pin SOP (DBQ24), Green (RoHS & no Sb/Br); Manufacturer: Texas Instruments; PartNumber: TLC59281DBQR; Rating: Catalog; Vin(Max)(V): 5.5; Vin(Min)(V): 3; DatasheetVersion: SBVS139B; PackageVersion: 4073301-4/H; PackageReference: DBQ24; PackageDescription: 24-Pin Plastic Small-Outline, Body 8.65 x 3.90 mm, Pitch 0.635 mm; Supplier 1: Digi-Key; Supplier Part Number 1: 296-25789-2-ND; Supplier 2: Digi-Key; Supplier Part Number 2: 296-25789-1-ND; Supplier 3: Digi-Key; Supplier Part Number 3: 296-25789-6-ND; Supplier 4: Newark; Supplier Part Number 4: 69R0414; Supplier 5: Mouser; Supplier Part Number 5: 595-TLC59281DBQR; Eco-Plan: Green (RoHS & no Sb/Br); SubFamily: LED Driver; Mounting Technology: Surface Mount; Code_JEDEC: MO-137; ComponentLink1Description: Manufacturer URL; ComponentLink1URL: http://www.ti.com/; ComponentLink2Description: Datasheet; ComponentLink2URL: http://www.ti.com/general/docs/lit/getliterature.tsp?genericPartNumber=TLC59281&fileType=pdf; ComponentLink3Description: Package Specification; ComponentLink3URL: http://www.ti.com/litv/pdf/mpds211a
footprint TI-DBQ24_N (SOP, 24-Leads, Body 8.65x6mm, Pitch 0.635mm, IPC Medium Density)
footprint TI-DBQ24_L (SOP, 24-Leads, Body 8.65x6mm, Pitch 0.635mm, IPC High Density)
footprint TI-DBQ24_M (SOP, 24-Leads, Body 8.65x6mm, Pitch 0.635mm, IPC Low Density)
pins: 1 GND (power) "Power ground", 2 SIN (in) "Serial data input for driver on/off control. When SIN=high level, data '1' are written into LSB of the on/off control shift register at the rising edge of SCLK.", 3 SCLK (in) "Serial data shift clock. Schmitt buffer input. All data in the on/off control shift register are shifted toward the MSB by 1-bit synchronization of SCLK. A rising edge on SCLK is allowed 100 ns after a rising edge of LAT.", 4 LAT (in) "Edge triggered latch. The data in the on/off control data shift register are transferred to the on/off control data latch at this rising edge. At the same time, the data in the on/off control shift register are replaced with (See Datasheet)", 5 OUT0 (out) "Constant-current output.Each output can be tied together with others to increase the Constant-current. Different voltages can be applied to each output.", 6 OUT1 (out) "Constant-current output", 7 OUT2 (out) "Constant-current output", 8 OUT3 (out) "Constant-current output", 9 OUT4 (out) "Constant-current output", 10 OUT5 (out) "Constant-current output", 11 OUT6 (out) "Constant-current output", 12 OUT7 (out) "Constant-current output", 13 OUT8 (out) "Constant-current output", 14 OUT9 (out) "Constant-current output", 15 OUT10 (out) "Constant-current output", 16 OUT11 (out) "Constant-current output", 17 OUT12 (out) "Constant-current output", 18 OUT13 (out) "Constant-current output", 19 OUT14 (out) "Constant-current output", 20 OUT15 (out) "Constant-current output", 21 BLANK (in) "Blank, all outputs. When BLANK = high level, all constant-current outputs (OUT0-OUT15) are forced off.When BLANK=low level, all constant-current outputs are controlled by the on/off control data in the data latch.LOD and PTW (See Datasheet)", 22 SOUT (out) "Serial data onput. This output is connected to the MSB of the on/off data shift register .SOUT data changes at the rising edge of SCLK.", 23 IREF (in) "Constant-current value setting.OUT0-OUT15 sink Constant-current is set to desired value by connection to an external resistor between IREF and GND.", 24 VCC (power) "Power-supply voltage"

## TLC59281RGER
designator U?
16-Channel, Constant-Current LED Driver without LED Open Detection, 3 to 5.5 V, -40 to 85 degC, 24-pin QFN (RGE24), Green (RoHS & no Sb/Br); Manufacturer: Texas Instruments; PartNumber: TLC59281RGER; Rating: Catalog; Vin(Max)(V): 5.5; Vin(Min)(V): 3; DatasheetVersion: SBVS139B; PackageVersion: 4204104/G; PackageReference: RGE24-2100X2100TP; PackageDescription: 24-Pin Plastic Flat Pack, Body 4 x 4 mm, Pitch 0.5 mm; Supplier 1: Digi-Key; Supplier Part Number 1: 296-27234-2-ND; Supplier 2: Digi-Key; Supplier Part Number 2: 296-27234-1-ND; Supplier 3: Digi-Key; Supplier Part Number 3: 296-27234-6-ND; Supplier 4: Newark; Supplier Part Number 4: 72R6575; Supplier 5: Mouser; Supplier Part Number 5: 595-TLC59281RGER; Eco-Plan: Green (RoHS & no Sb/Br); SubFamily: LED Driver; Mounting Technology: Surface Mount; Code_JEDEC: MO-220; ComponentLink1Description: Manufacturer URL; ComponentLink1URL: http://www.ti.com/; ComponentLink2Description: Datasheet; ComponentLink2URL: http://www.ti.com/general/docs/lit/getliterature.tsp?genericPartNumber=TLC59281&fileType=pdf; ComponentLink3Description: Package Specification; ComponentLink3URL: http://www.ti.com/litv/pdf/mpqf124f
footprint TI-RGE24-2100X2100TP_V (QFN, 24-Leads, Body 4x4mm, Pitch 0.5mm, Thermal Pad 2.1x2.1mm)
pins: 1 LAT (in) "Edge triggered latch. The data in the on/off control data shift register are transferred to the on/off control data latch at this rising edge. At the same time, the data in the on/off control shift register are replaced with (See Datasheet)", 2 OUT0 (out) "Constant-current output.Each output can be tied together with others to increase the Constant-current. Different voltages can be applied to each output.", 3 OUT1 (out) "Constant-current output", 4 OUT2 (out) "Constant-current output", 5 OUT3 (out) "Constant-current output", 6 OUT4 (out) "Constant-current output", 7 OUT5 (out) "Constant-current output", 8 OUT6 (out) "Constant-current output", 9 OUT7 (out) "Constant-current output", 10 OUT8 (out) "Constant-current output", 11 OUT9 (out) "Constant-current output", 12 OUT10 (out) "Constant-current output", 13 OUT11 (out) "Constant-current output", 14 OUT12 (out) "Constant-current output", 15 OUT13 (out) "Constant-current output", 16 OUT14 (out) "Constant-current output", 17 OUT15 (out) "Constant-current output", 18 BLANK (in) "Blank, all outputs. When BLANK = high level, all constant-current outputs (OUT0-OUT15) are forced off.When BLANK=low level, all constant-current outputs are controlled by the on/off control data in the data latch.LOD and PTW (See Datasheet)", 19 SOUT (out) "Serial data onput. This output is connected to the MSB of the on/off data shift register .SOUT data changes at the rising edge of SCLK.", 20 IREF (in) "Constant-current value setting.OUT0-OUT15 sink Constant-current is set to desired value by connection to an external resistor between IREF and GND.", 21 VCC (power) "Power-supply voltage", 22 GND (power) "Power ground", 23 SIN (in) "Serial data input for driver on/off control. When SIN=high level, data '1' are written into LSB of the on/off control shift register at the rising edge of SCLK.", 24 SCLK (in) "Serial data shift clock. Schmitt buffer input. All data in the on/off control shift register are shifted toward the MSB by 1-bit synchronization of SCLK. A rising edge on SCLK is allowed 100 ns after a rising edge of LAT.", 25 EP (power) "Thermal pad is not connected to GND internally. The thermal pad must be connected to GND via the PCB pattern."